# Altium schematic symbol library IRF9640S.SchLib: 2 symbols
Pins are listed as number, name and electrical type; pins without a type are passive.

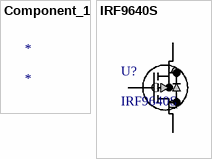
[diagram p0: symbols Component_1 to IRF9640S]

## Component_1
designator *
footprint D2PAK_VIS

## IRF9640S
designator U?
No Description Available; Mfr_Name: Vishay; Copyright: Copyright (C) 2022 Ultra Librarian. All rights reserved.; Manufacturer_Part_Number: IRF9640S; Digi-Key_Part_Number_1: IRF9640S-ND; RefDes: RefDes; Type: DEV
footprint D2PAK_VIS
pins: 1 G, 2 S, 3 D